# Altium integrated library Altera Classic EPLD.IntLib: 71 symbols (part 2 of 2)
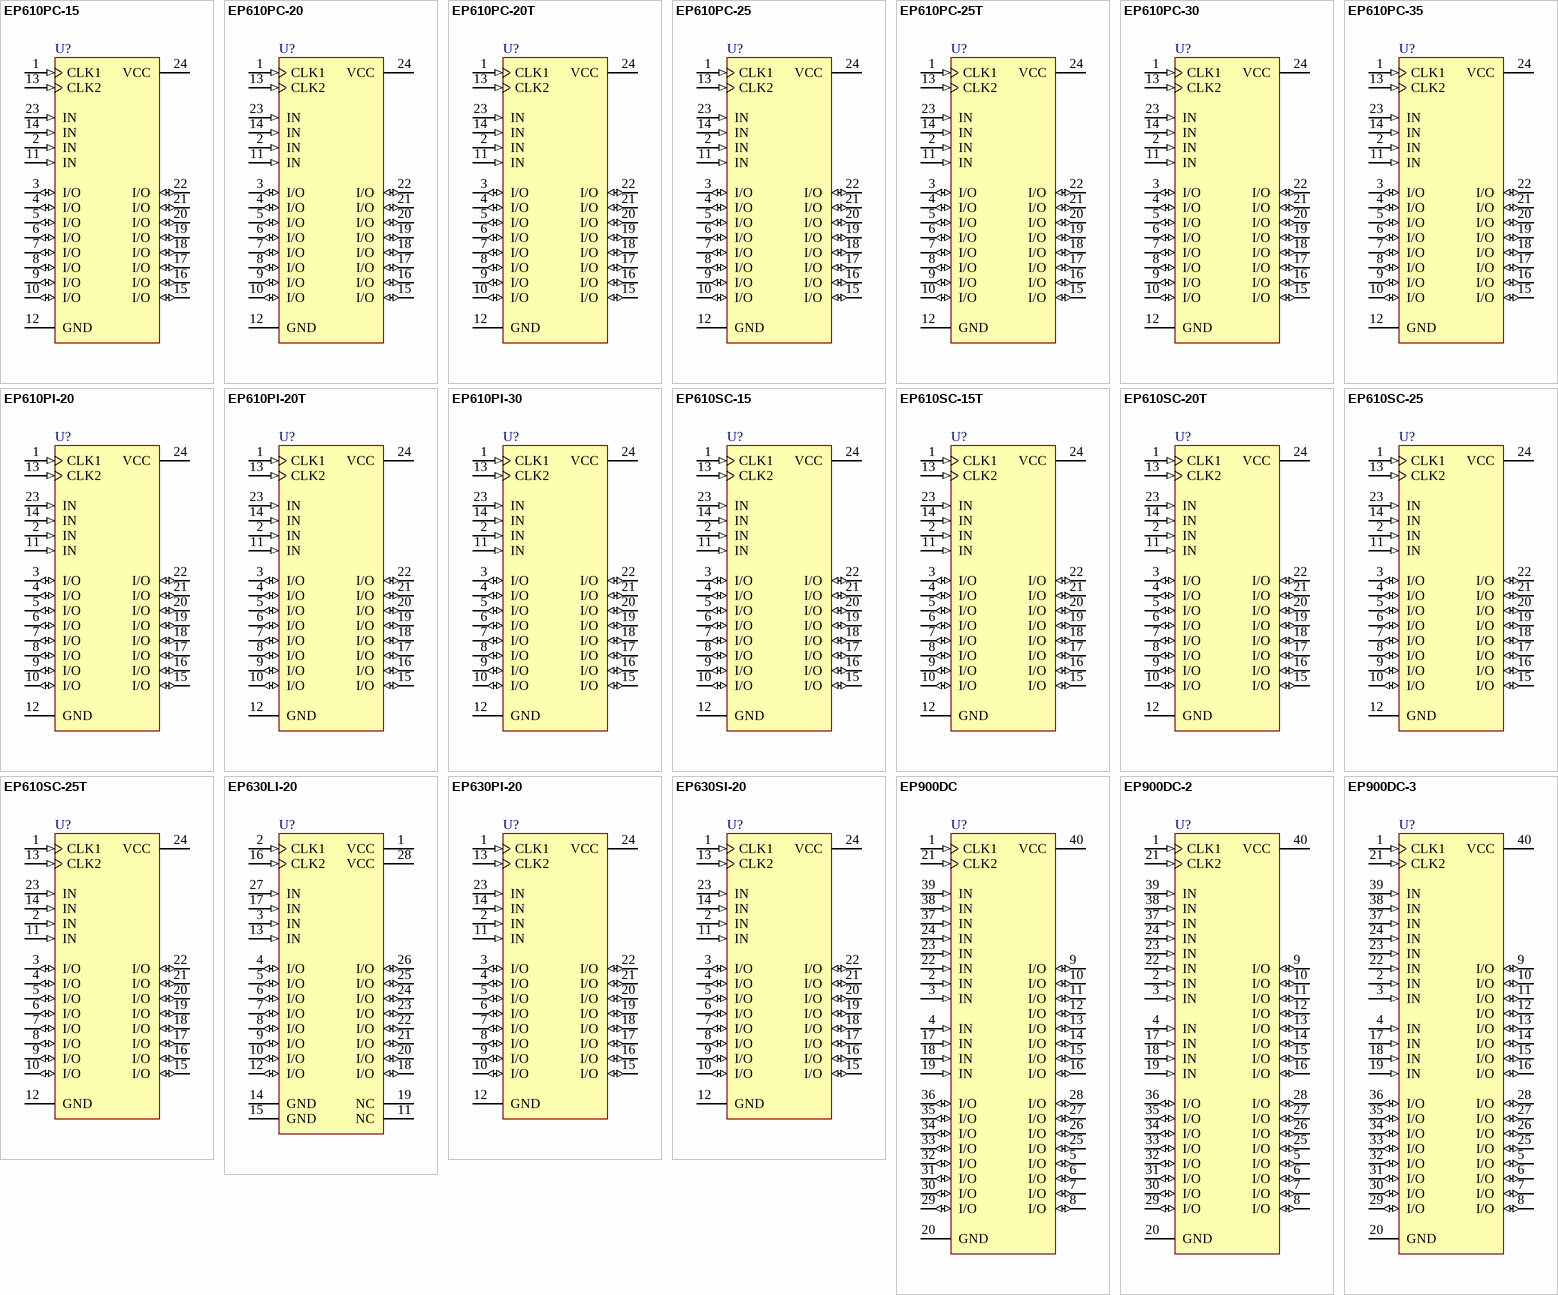
[diagram p4: symbols EP610PC-15 to EP900DC-3]

## EP610SC-25T
designator U?
EP610 5.0V Classic EPLD, 16-Macrocells, 24-Pin SOIC, Speed Grade 25, Commercial Grade, Turbo; Published: 24-Nov-2000; LatestRevisionDate: 13-Apr-2006; LatestRevisionNote: IPC-7351 Footprint Added.; DatasheetVersion: Mar-1995; PackageVersion: ver14.2, Oct-2005; PackageReference: SOIC24; Publisher: Altium Limited; PackageDescription: 24-Pin Small Outline Integrated Circuit Package (SOIC24); Code_JEDEC: MS-013-AD; ComponentLink1Description: Manufacturer Link; ComponentLink1URL: http://www.altera.com/products/devices/classic/cls-index.html; ComponentLink2Description: Datasheet; ComponentLink2URL: http://www.altera.com/literature/ds/classic.pdf
footprint SOIC24_N (SOIC, 24-Leads, Body 15.4x7.5mm, Pitch 1.27mm, IPC Medium Density)
footprint SOIC24_L (SOIC, 24-Leads, Body 15.4x7.5mm, Pitch 1.27mm, IPC High Density)
footprint SOIC24_M (SOIC, 24-Leads, Body 15.4x7.5mm, Pitch 1.27mm, IPC Low Density)
3D model SOIC24 (24-Pin Small Outline Integrated Circuit Package (SOIC24))
pins: 1 CLK1 (in), 2 IN (in), 3 I/O (io), 4 I/O (io), 5 I/O (io), 6 I/O (io), 7 I/O (io), 8 I/O (io), 9 I/O (io), 10 I/O (io), 11 IN (in), 12 GND (power), 13 CLK2 (in), 14 IN (in), 15 I/O (io), 16 I/O (io), 17 I/O (io), 18 I/O (io), 19 I/O (io), 20 I/O (io), 21 I/O (io), 22 I/O (io), 23 IN (in), 24 VCC (power)

## EP630LI-20
designator U?
EP630 5.0V Classic EPLD, 16-Macrocells, 28-Pin PLCC, Speed Grade 20, Industrial Grade; Published: 24-Nov-2000; LatestRevisionDate: 13-Apr-2006; LatestRevisionNote: IPC-7351 Footprint Added.; DatasheetVersion: Sep-1991; PackageVersion: ver14.2, Oct-2005; PackageReference: PLCC28; Publisher: Altium Limited; PackageDescription: 28-Pin Plastic J-Lead Chip Carrier (PLCC28); Code_JEDEC: MS-018-AB; ComponentLink1Description: Manufacturer Link; ComponentLink1URL: http://www.altera.com/products/devices/classic/cls-index.html
footprint PLCC28_N (Leaded Chip Carrier, 28-Leads, Body 11.5x11.5mm, Pitch 1.27mm, IPC Medium Density)
footprint PLCC28_L (Leaded Chip Carrier, 28-Leads, Body 11.5x11.5mm, Pitch 1.27mm, IPC High Density)
footprint PLCC28_M (Leaded Chip Carrier, 28-Leads, Body 11.5x11.5mm, Pitch 1.27mm, IPC Low Density)
3D model EP630-PLCC28 (28-Pin Plastic J-Lead Chip Carrier (PLCC28))
pins: 1 VCC (power), 2 CLK1 (in), 3 IN (in), 4 I/O (io), 5 I/O (io), 6 I/O (io), 7 I/O (io), 8 I/O (io), 9 I/O (io), 10 I/O (io), 11 NC, 12 I/O (io), 13 IN (in), 14 GND (power), 15 GND (power), 16 CLK2 (in), 17 IN (in), 18 I/O (io), 19 NC, 20 I/O (io), 21 I/O (io), 22 I/O (io), 23 I/O (io), 24 I/O (io), 25 I/O (io), 26 I/O (io), 27 IN (in), 28 VCC (power)

## EP630PI-20
designator U?
EP630 5.0V Classic EPLD, 16-Macrocells, 24-Pin PDIP, Speed Grade 20, Industrial Grade; Published: 24-Nov-2000; LatestRevisionDate: 04-Mar-2005; LatestRevisionNote: Stylized 3D Model Added.; DatasheetVersion: Sep-1991; PackageVersion: ver14.2, Oct-2005; PackageReference: PDIP24; Publisher: Altium Limited; PackageDescription: 24-Pin Plastic Dual In-Line Package (PDIP); Code_JEDEC: MS-001-AF; ComponentLink1Description: Manufacturer Link; ComponentLink1URL: http://www.altera.com/products/devices/classic/cls-index.html
footprint PDIP24 (DIP, 24-Leads, Row Spacing 7.62mm, Pitch 2.54mm, Body 30.21x6.54mm)
3D model PDIP24 (24-Pin Plastic Dual In-Line Package (PDIP))
pins: 1 CLK1 (in), 2 IN (in), 3 I/O (io), 4 I/O (io), 5 I/O (io), 6 I/O (io), 7 I/O (io), 8 I/O (io), 9 I/O (io), 10 I/O (io), 11 IN (in), 12 GND (power), 13 CLK2 (in), 14 IN (in), 15 I/O (io), 16 I/O (io), 17 I/O (io), 18 I/O (io), 19 I/O (io), 20 I/O (io), 21 I/O (io), 22 I/O (io), 23 IN (in), 24 VCC (power)

## EP630SI-20
designator U?
EP630 5.0V Classic EPLD, 16-Macrocells, 24-Pin SOIC, Speed Grade 20, Industrial Grade; Published: 24-Nov-2000; LatestRevisionDate: 13-Apr-2006; LatestRevisionNote: IPC-7351 Footprint Added.; DatasheetVersion: Sep-1991; PackageVersion: ver14.2, Oct-2005; PackageReference: SOIC24; Publisher: Altium Limited; PackageDescription: 24-Pin Small Outline Integrated Circuit Package (SOIC24); Code_JEDEC: MS-013-AD; ComponentLink1Description: Manufacturer Link; ComponentLink1URL: http://www.altera.com/products/devices/classic/cls-index.html
footprint SOIC24_N (SOIC, 24-Leads, Body 15.4x7.5mm, Pitch 1.27mm, IPC Medium Density)
footprint SOIC24_L (SOIC, 24-Leads, Body 15.4x7.5mm, Pitch 1.27mm, IPC High Density)
footprint SOIC24_M (SOIC, 24-Leads, Body 15.4x7.5mm, Pitch 1.27mm, IPC Low Density)
3D model SOIC24 (24-Pin Small Outline Integrated Circuit Package (SOIC24))
pins: 1 CLK1 (in), 2 IN (in), 3 I/O (io), 4 I/O (io), 5 I/O (io), 6 I/O (io), 7 I/O (io), 8 I/O (io), 9 I/O (io), 10 I/O (io), 11 IN (in), 12 GND (power), 13 CLK2 (in), 14 IN (in), 15 I/O (io), 16 I/O (io), 17 I/O (io), 18 I/O (io), 19 I/O (io), 20 I/O (io), 21 I/O (io), 22 I/O (io), 23 IN (in), 24 VCC (power)

## EP900DC
designator U?
EP900 5.0V Classic EPLD, 24-Macrocells, 40-Pin CerDIP, Speed Grade Standard, Commercial Grade; Note: Pins, function and programming file compatible with EP910 and EP910T devices; Published: 24-Nov-2000; LatestRevisionDate: 04-Mar-2005; LatestRevisionNote: Stylized 3D Model Added.; DatasheetVersion: Sep-1988; PackageVersion: ver14.2, Oct-2005; PackageReference: CerDIP40; Publisher: Altium Limited; PackageDescription: 40-Pin Ceramic Dual In-Line Package (CerDIP); Code_JEDEC: MS-032-AD; ComponentLink1Description: Manufacturer Link; ComponentLink1URL: http://www.altera.com/products/devices/classic/cls-index.html
footprint CerDIP40 (DIP, 40-Leads, Row Spacing 15.24mm, Pitch 2.54mm, Body 52.07x13.97mm)
3D model PDIP40 (40-Pin Ceramic Dual In-Line Package (CerDIP))
pins: 1 CLK1 (in), 2 IN (in), 3 IN (in), 4 IN (in), 5 I/O (io), 6 I/O (io), 7 I/O (io), 8 I/O (io), 9 I/O (io), 10 I/O (io), 11 I/O (io), 12 I/O (io), 13 I/O (io), 14 I/O (io), 15 I/O (io), 16 I/O (io), 17 IN (in), 18 IN (in), 19 IN (in), 20 GND (power), 21 CLK2 (in), 22 IN (in), 23 IN (in), 24 IN (in), 25 I/O (io), 26 I/O (io), 27 I/O (io), 28 I/O (io), 29 I/O (io), 30 I/O (io), 31 I/O (io), 32 I/O (io), 33 I/O (io), 34 I/O (io), 35 I/O (io), 36 I/O (io), 37 IN (in), 38 IN (in), 39 IN (in), 40 VCC (power)

## EP900DC-2
designator U?
EP900 5.0V Classic EPLD, 24-Macrocells, 40-Pin CerDIP, Speed Grade 2, Commercial Grade; Note: Pins, function and programming file compatible with EP910 and EP910T devices; Published: 24-Nov-2000; LatestRevisionDate: 04-Mar-2005; LatestRevisionNote: Stylized 3D Model Added.; DatasheetVersion: Sep-1988; PackageVersion: ver14.2, Oct-2005; PackageReference: CerDIP40; Publisher: Altium Limited; PackageDescription: 40-Pin Ceramic Dual In-Line Package (CerDIP); Code_JEDEC: MS-032-AD; ComponentLink1Description: Manufacturer Link; ComponentLink1URL: http://www.altera.com/products/devices/classic/cls-index.html
footprint CerDIP40 (DIP, 40-Leads, Row Spacing 15.24mm, Pitch 2.54mm, Body 52.07x13.97mm)
3D model PDIP40 (40-Pin Ceramic Dual In-Line Package (CerDIP))
pins: 1 CLK1 (in), 2 IN (in), 3 IN (in), 4 IN (in), 5 I/O (io), 6 I/O (io), 7 I/O (io), 8 I/O (io), 9 I/O (io), 10 I/O (io), 11 I/O (io), 12 I/O (io), 13 I/O (io), 14 I/O (io), 15 I/O (io), 16 I/O (io), 17 IN (in), 18 IN (in), 19 IN (in), 20 GND (power), 21 CLK2 (in), 22 IN (in), 23 IN (in), 24 IN (in), 25 I/O (io), 26 I/O (io), 27 I/O (io), 28 I/O (io), 29 I/O (io), 30 I/O (io), 31 I/O (io), 32 I/O (io), 33 I/O (io), 34 I/O (io), 35 I/O (io), 36 I/O (io), 37 IN (in), 38 IN (in), 39 IN (in), 40 VCC (power)

## EP900DC-3
designator U?
EP900 5.0V Classic EPLD, 24-Macrocells, 40-Pin CerDIP, Speed Grade 3, Commercial Grade; Note: Pins, function and programming file compatible with EP910 and EP910T devices; Published: 24-Nov-2000; LatestRevisionDate: 04-Mar-2005; LatestRevisionNote: Stylized 3D Model Added.; DatasheetVersion: Sep-1988; PackageVersion: ver14.2, Oct-2005; PackageReference: CerDIP40; Publisher: Altium Limited; PackageDescription: 40-Pin Ceramic Dual In-Line Package (CerDIP); Code_JEDEC: MS-032-AD; ComponentLink1Description: Manufacturer Link; ComponentLink1URL: http://www.altera.com/products/devices/classic/cls-index.html
footprint CerDIP40 (DIP, 40-Leads, Row Spacing 15.24mm, Pitch 2.54mm, Body 52.07x13.97mm)
3D model PDIP40 (40-Pin Ceramic Dual In-Line Package (CerDIP))
pins: 1 CLK1 (in), 2 IN (in), 3 IN (in), 4 IN (in), 5 I/O (io), 6 I/O (io), 7 I/O (io), 8 I/O (io), 9 I/O (io), 10 I/O (io), 11 I/O (io), 12 I/O (io), 13 I/O (io), 14 I/O (io), 15 I/O (io), 16 I/O (io), 17 IN (in), 18 IN (in), 19 IN (in), 20 GND (power), 21 CLK2 (in), 22 IN (in), 23 IN (in), 24 IN (in), 25 I/O (io), 26 I/O (io), 27 I/O (io), 28 I/O (io), 29 I/O (io), 30 I/O (io), 31 I/O (io), 32 I/O (io), 33 I/O (io), 34 I/O (io), 35 I/O (io), 36 I/O (io), 37 IN (in), 38 IN (in), 39 IN (in), 40 VCC (power)

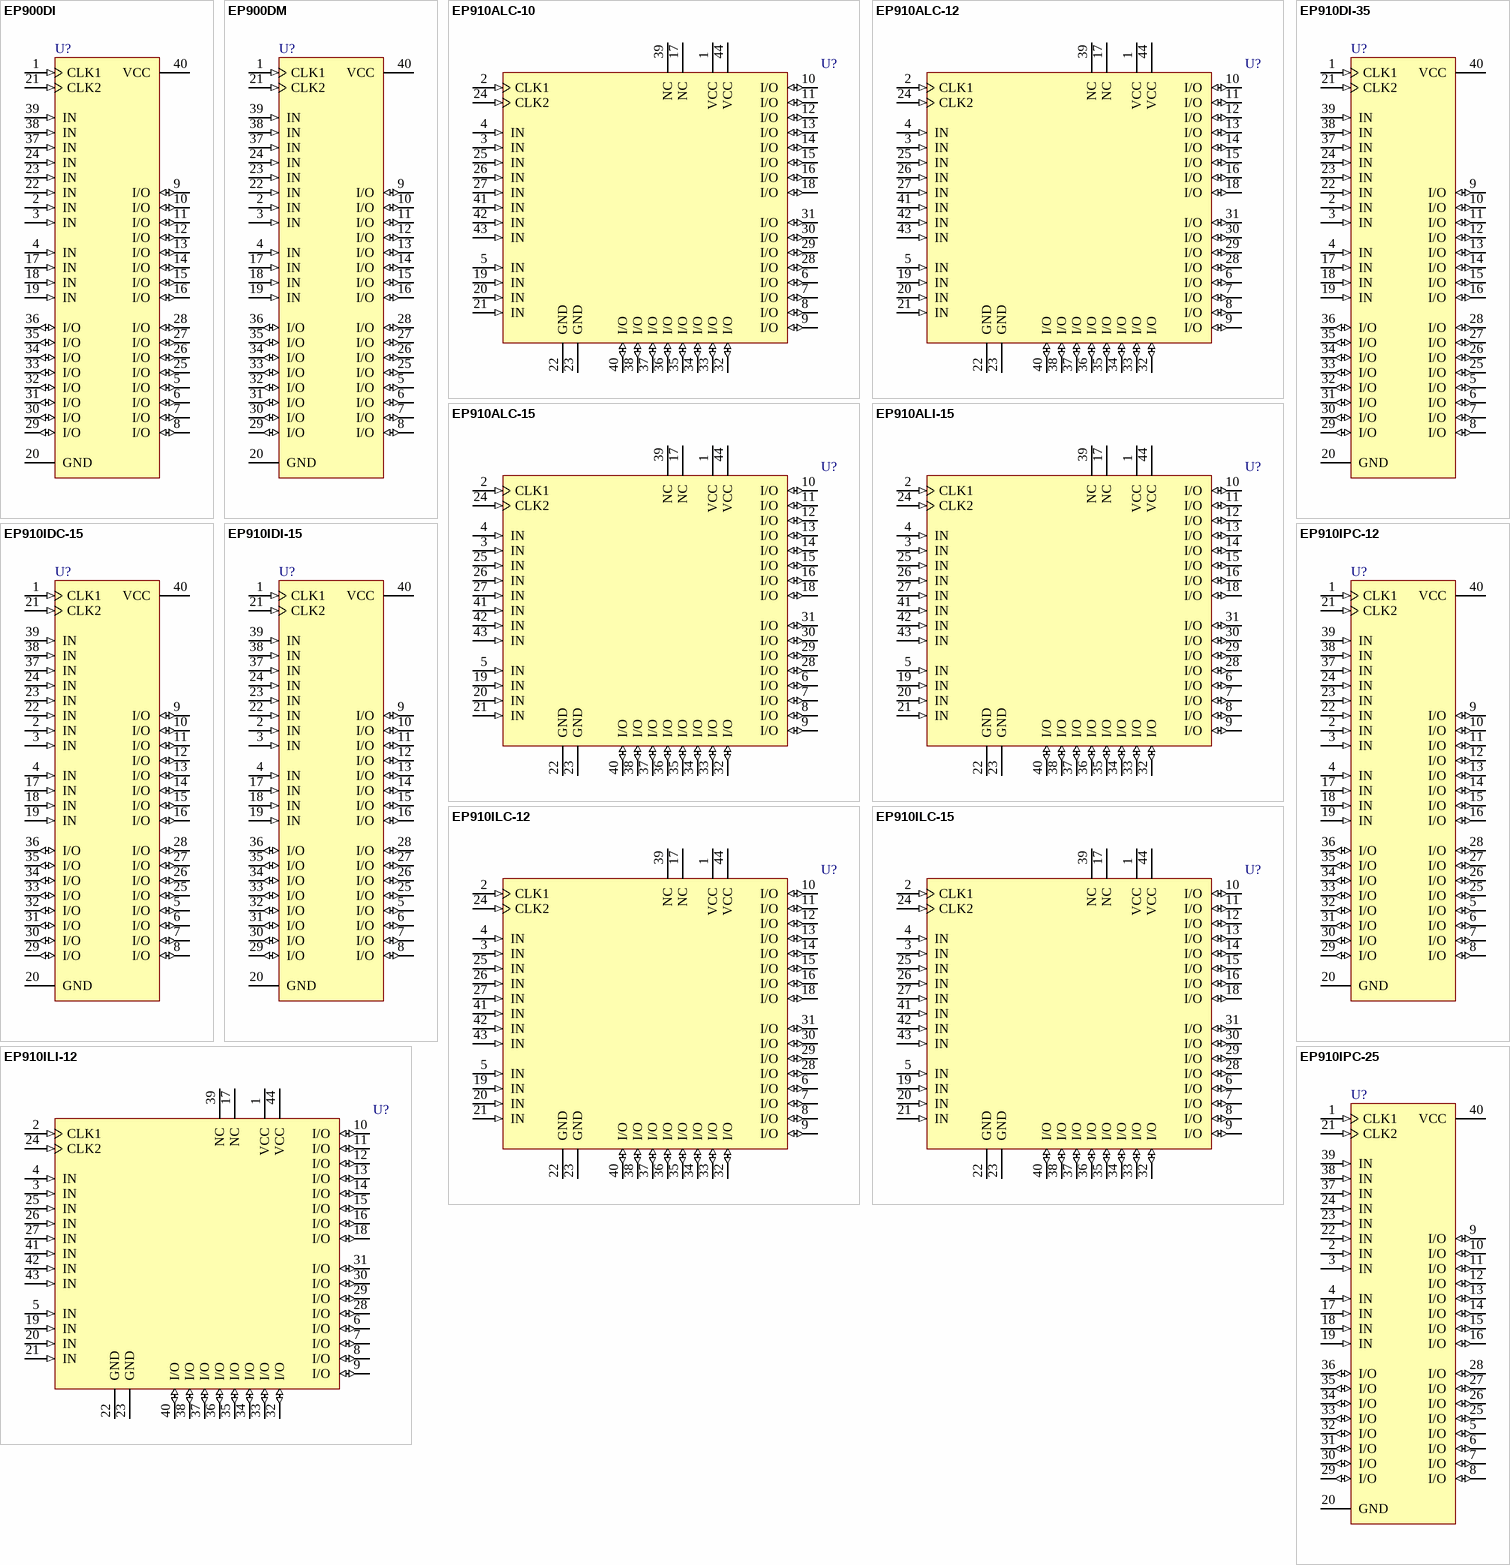
[diagram p2: symbols EP900DI to EP910IPC-25]

## EP900DI
designator U?
EP900 5.0V Classic EPLD, 24-Macrocells, 40-Pin CerDIP, Speed Grade Standard, Industrial Grade; Note: Pins, function and programming file compatible with EP910 and EP910T devices; Published: 24-Nov-2000; LatestRevisionDate: 04-Mar-2005; LatestRevisionNote: Stylized 3D Model Added.; DatasheetVersion: Sep-1988; PackageVersion: ver14.2, Oct-2005; PackageReference: CerDIP40; Publisher: Altium Limited; PackageDescription: 40-Pin Ceramic Dual In-Line Package (CerDIP); Code_JEDEC: MS-032-AD; ComponentLink1Description: Manufacturer Link; ComponentLink1URL: http://www.altera.com/products/devices/classic/cls-index.html
footprint CerDIP40 (DIP, 40-Leads, Row Spacing 15.24mm, Pitch 2.54mm, Body 52.07x13.97mm)
3D model PDIP40 (40-Pin Ceramic Dual In-Line Package (CerDIP))
pins: 1 CLK1 (in), 2 IN (in), 3 IN (in), 4 IN (in), 5 I/O (io), 6 I/O (io), 7 I/O (io), 8 I/O (io), 9 I/O (io), 10 I/O (io), 11 I/O (io), 12 I/O (io), 13 I/O (io), 14 I/O (io), 15 I/O (io), 16 I/O (io), 17 IN (in), 18 IN (in), 19 IN (in), 20 GND (power), 21 CLK2 (in), 22 IN (in), 23 IN (in), 24 IN (in), 25 I/O (io), 26 I/O (io), 27 I/O (io), 28 I/O (io), 29 I/O (io), 30 I/O (io), 31 I/O (io), 32 I/O (io), 33 I/O (io), 34 I/O (io), 35 I/O (io), 36 I/O (io), 37 IN (in), 38 IN (in), 39 IN (in), 40 VCC (power)

## EP900DM
designator U?
EP900 5.0V Classic EPLD, 24-Macrocells, 40-Pin CerDIP, Speed Grade Standard, Military Grade; Note: Pins, function and programming file compatible with EP910 and EP910T devices; Published: 24-Nov-2000; LatestRevisionDate: 04-Mar-2005; LatestRevisionNote: Stylized 3D Model Added.; DatasheetVersion: Sep-1988; PackageVersion: ver14.2, Oct-2005; PackageReference: CerDIP40; Publisher: Altium Limited; PackageDescription: 40-Pin Ceramic Dual In-Line Package (CerDIP); Code_JEDEC: MS-032-AD; ComponentLink1Description: Manufacturer Link; ComponentLink1URL: http://www.altera.com/products/devices/classic/cls-index.html
footprint CerDIP40 (DIP, 40-Leads, Row Spacing 15.24mm, Pitch 2.54mm, Body 52.07x13.97mm)
3D model PDIP40 (40-Pin Ceramic Dual In-Line Package (CerDIP))
pins: 1 CLK1 (in), 2 IN (in), 3 IN (in), 4 IN (in), 5 I/O (io), 6 I/O (io), 7 I/O (io), 8 I/O (io), 9 I/O (io), 10 I/O (io), 11 I/O (io), 12 I/O (io), 13 I/O (io), 14 I/O (io), 15 I/O (io), 16 I/O (io), 17 IN (in), 18 IN (in), 19 IN (in), 20 GND (power), 21 CLK2 (in), 22 IN (in), 23 IN (in), 24 IN (in), 25 I/O (io), 26 I/O (io), 27 I/O (io), 28 I/O (io), 29 I/O (io), 30 I/O (io), 31 I/O (io), 32 I/O (io), 33 I/O (io), 34 I/O (io), 35 I/O (io), 36 I/O (io), 37 IN (in), 38 IN (in), 39 IN (in), 40 VCC (power)

## EP910ALC-10
designator U?
EP910A 5.0V Classic EPLD, 24-Macrocells, 44-Pin PLCC, Speed Grade 10, Commercial Grade; Published: 24-Nov-2000; LatestRevisionDate: 13-Apr-2006; LatestRevisionNote: IPC-7351 Footprint Added.; DatasheetVersion: Mar-1993; PackageVersion: ver14.3, Jul-2006; PackageReference: PLCC44; Publisher: Altium Limited; PackageDescription: 44-Pin Plastic J-Lead Chip Carrier (PLCC44); Code_JEDEC: MS-018-AC; Code_IPC: PLCC-44; ComponentLink1Description: Manufacturer Link; ComponentLink1URL: http://www.altera.com/products/devices/classic/cls-index.html
footprint PLCC44_N (Leaded Chip Carrier, 44-Leads, Body 16.6x16.6mm, Pitch 1.27mm, IPC Medium Density)
footprint PLCC44_L (Leaded Chip Carrier, 44-Leads, Body 16.6x16.6mm, Pitch 1.27mm, IPC High Density)
footprint PLCC44_M (Leaded Chip Carrier, 44-Leads, Body 16.6x16.6mm, Pitch 1.27mm, IPC Low Density)
3D model EP910A-PLCC44 (44-Pin Plastic J-Lead Chip Carrier (PLCC44))
pins: 1 VCC (power), 2 CLK1 (in), 3 IN (in), 4 IN (in), 5 IN (in), 6 I/O (io), 7 I/O (io), 8 I/O (io), 9 I/O (io), 10 I/O (io), 11 I/O (io), 12 I/O (io), 13 I/O (io), 14 I/O (io), 15 I/O (io), 16 I/O (io), 17 NC, 18 I/O (io), 19 IN (in), 20 IN (in), 21 IN (in), 22 GND (power), 23 GND (power), 24 CLK2 (in), 25 IN (in), 26 IN (in), 27 IN (in), 28 I/O (io), 29 I/O (io), 30 I/O (io), 31 I/O (io), 32 I/O (io), 33 I/O (io), 34 I/O (io), 35 I/O (io), 36 I/O (io), 37 I/O (io), 38 I/O (io), 39 NC, 40 I/O (io), 41 IN (in), 42 IN (in), 43 IN (in), 44 VCC (power)

## EP910ALC-12
designator U?
EP910A 5.0V Classic EPLD, 24-Macrocells, 44-Pin PLCC, Speed Grade 12, Commercial Grade; Published: 24-Nov-2000; LatestRevisionDate: 13-Apr-2006; LatestRevisionNote: IPC-7351 Footprint Added.; DatasheetVersion: Mar-1993; PackageVersion: ver14.3, Jul-2006; PackageReference: PLCC44; Publisher: Altium Limited; PackageDescription: 44-Pin Plastic J-Lead Chip Carrier (PLCC44); Code_JEDEC: MS-018-AC; Code_IPC: PLCC-44; ComponentLink1Description: Manufacturer Link; ComponentLink1URL: http://www.altera.com/products/devices/classic/cls-index.html
footprint PLCC44_N (Leaded Chip Carrier, 44-Leads, Body 16.6x16.6mm, Pitch 1.27mm, IPC Medium Density)
footprint PLCC44_L (Leaded Chip Carrier, 44-Leads, Body 16.6x16.6mm, Pitch 1.27mm, IPC High Density)
footprint PLCC44_M (Leaded Chip Carrier, 44-Leads, Body 16.6x16.6mm, Pitch 1.27mm, IPC Low Density)
3D model EP910A-PLCC44 (44-Pin Plastic J-Lead Chip Carrier (PLCC44))
pins: 1 VCC (power), 2 CLK1 (in), 3 IN (in), 4 IN (in), 5 IN (in), 6 I/O (io), 7 I/O (io), 8 I/O (io), 9 I/O (io), 10 I/O (io), 11 I/O (io), 12 I/O (io), 13 I/O (io), 14 I/O (io), 15 I/O (io), 16 I/O (io), 17 NC, 18 I/O (io), 19 IN (in), 20 IN (in), 21 IN (in), 22 GND (power), 23 GND (power), 24 CLK2 (in), 25 IN (in), 26 IN (in), 27 IN (in), 28 I/O (io), 29 I/O (io), 30 I/O (io), 31 I/O (io), 32 I/O (io), 33 I/O (io), 34 I/O (io), 35 I/O (io), 36 I/O (io), 37 I/O (io), 38 I/O (io), 39 NC, 40 I/O (io), 41 IN (in), 42 IN (in), 43 IN (in), 44 VCC (power)

## EP910ALC-15
designator U?
EP910A 5.0V Classic EPLD, 24-Macrocells, 44-Pin PLCC, Speed Grade 15, Commercial Grade; Published: 24-Nov-2000; LatestRevisionDate: 13-Apr-2006; LatestRevisionNote: IPC-7351 Footprint Added.; DatasheetVersion: Mar-1993; PackageVersion: ver14.3, Jul-2006; PackageReference: PLCC44; Publisher: Altium Limited; PackageDescription: 44-Pin Plastic J-Lead Chip Carrier (PLCC44); Code_JEDEC: MS-018-AC; Code_IPC: PLCC-44; ComponentLink1Description: Manufacturer Link; ComponentLink1URL: http://www.altera.com/products/devices/classic/cls-index.html
footprint PLCC44_N (Leaded Chip Carrier, 44-Leads, Body 16.6x16.6mm, Pitch 1.27mm, IPC Medium Density)
footprint PLCC44_L (Leaded Chip Carrier, 44-Leads, Body 16.6x16.6mm, Pitch 1.27mm, IPC High Density)
footprint PLCC44_M (Leaded Chip Carrier, 44-Leads, Body 16.6x16.6mm, Pitch 1.27mm, IPC Low Density)
3D model EP910A-PLCC44 (44-Pin Plastic J-Lead Chip Carrier (PLCC44))
pins: 1 VCC (power), 2 CLK1 (in), 3 IN (in), 4 IN (in), 5 IN (in), 6 I/O (io), 7 I/O (io), 8 I/O (io), 9 I/O (io), 10 I/O (io), 11 I/O (io), 12 I/O (io), 13 I/O (io), 14 I/O (io), 15 I/O (io), 16 I/O (io), 17 NC, 18 I/O (io), 19 IN (in), 20 IN (in), 21 IN (in), 22 GND (power), 23 GND (power), 24 CLK2 (in), 25 IN (in), 26 IN (in), 27 IN (in), 28 I/O (io), 29 I/O (io), 30 I/O (io), 31 I/O (io), 32 I/O (io), 33 I/O (io), 34 I/O (io), 35 I/O (io), 36 I/O (io), 37 I/O (io), 38 I/O (io), 39 NC, 40 I/O (io), 41 IN (in), 42 IN (in), 43 IN (in), 44 VCC (power)

## EP910ALI-15
designator U?
EP910A 5.0V Classic EPLD, 24-Macrocells, 44-Pin PLCC, Speed Grade 15, Industrial Grade; Published: 24-Nov-2000; LatestRevisionDate: 13-Apr-2006; LatestRevisionNote: IPC-7351 Footprint Added.; DatasheetVersion: Mar-1993; PackageVersion: ver14.3, Jul-2006; PackageReference: PLCC44; Publisher: Altium Limited; PackageDescription: 44-Pin Plastic J-Lead Chip Carrier (PLCC44); Code_JEDEC: MS-018-AC; Code_IPC: PLCC-44; ComponentLink1Description: Manufacturer Link; ComponentLink1URL: http://www.altera.com/products/devices/classic/cls-index.html
footprint PLCC44_N (Leaded Chip Carrier, 44-Leads, Body 16.6x16.6mm, Pitch 1.27mm, IPC Medium Density)
footprint PLCC44_L (Leaded Chip Carrier, 44-Leads, Body 16.6x16.6mm, Pitch 1.27mm, IPC High Density)
footprint PLCC44_M (Leaded Chip Carrier, 44-Leads, Body 16.6x16.6mm, Pitch 1.27mm, IPC Low Density)
3D model EP910A-PLCC44 (44-Pin Plastic J-Lead Chip Carrier (PLCC44))
pins: 1 VCC (power), 2 CLK1 (in), 3 IN (in), 4 IN (in), 5 IN (in), 6 I/O (io), 7 I/O (io), 8 I/O (io), 9 I/O (io), 10 I/O (io), 11 I/O (io), 12 I/O (io), 13 I/O (io), 14 I/O (io), 15 I/O (io), 16 I/O (io), 17 NC, 18 I/O (io), 19 IN (in), 20 IN (in), 21 IN (in), 22 GND (power), 23 GND (power), 24 CLK2 (in), 25 IN (in), 26 IN (in), 27 IN (in), 28 I/O (io), 29 I/O (io), 30 I/O (io), 31 I/O (io), 32 I/O (io), 33 I/O (io), 34 I/O (io), 35 I/O (io), 36 I/O (io), 37 I/O (io), 38 I/O (io), 39 NC, 40 I/O (io), 41 IN (in), 42 IN (in), 43 IN (in), 44 VCC (power)

## EP910DI-35
designator U?
EP910 5.0V Classic EPLD, 24-Macrocells, 40-Pin CerDIP, Speed Grade 35, Industrial Grade; Note: Pins, function and programming file compatible with EP910 and EP910T devices; Published: 24-Nov-2000; LatestRevisionDate: 04-Mar-2005; LatestRevisionNote: Stylized 3D Model Added.; DatasheetVersion: May-1999; PackageVersion: ver14.2, Oct-2005; PackageReference: CerDIP40; Publisher: Altium Limited; PackageDescription: 40-Pin Ceramic Dual In-Line Package (CerDIP); Code_JEDEC: MS-032-AD; ComponentLink1Description: Manufacturer Link; ComponentLink1URL: http://www.altera.com/products/devices/classic/cls-index.html
footprint CerDIP40 (DIP, 40-Leads, Row Spacing 15.24mm, Pitch 2.54mm, Body 52.07x13.97mm)
3D model PDIP40 (40-Pin Ceramic Dual In-Line Package (CerDIP))
pins: 1 CLK1 (in), 2 IN (in), 3 IN (in), 4 IN (in), 5 I/O (io), 6 I/O (io), 7 I/O (io), 8 I/O (io), 9 I/O (io), 10 I/O (io), 11 I/O (io), 12 I/O (io), 13 I/O (io), 14 I/O (io), 15 I/O (io), 16 I/O (io), 17 IN (in), 18 IN (in), 19 IN (in), 20 GND (power), 21 CLK2 (in), 22 IN (in), 23 IN (in), 24 IN (in), 25 I/O (io), 26 I/O (io), 27 I/O (io), 28 I/O (io), 29 I/O (io), 30 I/O (io), 31 I/O (io), 32 I/O (io), 33 I/O (io), 34 I/O (io), 35 I/O (io), 36 I/O (io), 37 IN (in), 38 IN (in), 39 IN (in), 40 VCC (power)

## EP910IDC-15
designator U?
EP910I 5.0V Classic EPLD, 24-Macrocells, 40-Pin CerDIP, Speed Grade 15, Commercial Grade; Note: Pins, function and programming file compatible with EP910 and EP910T devices; Published: 24-Nov-2000; LatestRevisionDate: 04-Mar-2005; LatestRevisionNote: Stylized 3D Model Added.; DatasheetVersion: May-1999; PackageVersion: ver14.2, Oct-2005; PackageReference: CerDIP40; Publisher: Altium Limited; PackageDescription: 40-Pin Ceramic Dual In-Line Package (CerDIP); Code_JEDEC: MS-032-AD; ComponentLink1Description: Manufacturer Link; ComponentLink1URL: http://www.altera.com/products/devices/classic/cls-index.html
footprint CerDIP40 (DIP, 40-Leads, Row Spacing 15.24mm, Pitch 2.54mm, Body 52.07x13.97mm)
3D model PDIP40 (40-Pin Ceramic Dual In-Line Package (CerDIP))
pins: 1 CLK1 (in), 2 IN (in), 3 IN (in), 4 IN (in), 5 I/O (io), 6 I/O (io), 7 I/O (io), 8 I/O (io), 9 I/O (io), 10 I/O (io), 11 I/O (io), 12 I/O (io), 13 I/O (io), 14 I/O (io), 15 I/O (io), 16 I/O (io), 17 IN (in), 18 IN (in), 19 IN (in), 20 GND (power), 21 CLK2 (in), 22 IN (in), 23 IN (in), 24 IN (in), 25 I/O (io), 26 I/O (io), 27 I/O (io), 28 I/O (io), 29 I/O (io), 30 I/O (io), 31 I/O (io), 32 I/O (io), 33 I/O (io), 34 I/O (io), 35 I/O (io), 36 I/O (io), 37 IN (in), 38 IN (in), 39 IN (in), 40 VCC (power)

## EP910IDI-15
designator U?
EP910I 5.0V Classic EPLD, 24-Macrocells, 40-Pin CerDIP, Speed Grade 15, Industrial Grade; Note: Pins, function and programming file compatible with EP910 and EP910T devices; Published: 24-Nov-2000; LatestRevisionDate: 04-Mar-2005; LatestRevisionNote: Stylized 3D Model Added.; DatasheetVersion: May-1999; PackageVersion: ver14.2, Oct-2005; PackageReference: CerDIP40; Publisher: Altium Limited; PackageDescription: 40-Pin Ceramic Dual In-Line Package (CerDIP); Code_JEDEC: MS-032-AD; ComponentLink1Description: Manufacturer Link; ComponentLink1URL: http://www.altera.com/products/devices/classic/cls-index.html
footprint CerDIP40 (DIP, 40-Leads, Row Spacing 15.24mm, Pitch 2.54mm, Body 52.07x13.97mm)
3D model PDIP40 (40-Pin Ceramic Dual In-Line Package (CerDIP))
pins: 1 CLK1 (in), 2 IN (in), 3 IN (in), 4 IN (in), 5 I/O (io), 6 I/O (io), 7 I/O (io), 8 I/O (io), 9 I/O (io), 10 I/O (io), 11 I/O (io), 12 I/O (io), 13 I/O (io), 14 I/O (io), 15 I/O (io), 16 I/O (io), 17 IN (in), 18 IN (in), 19 IN (in), 20 GND (power), 21 CLK2 (in), 22 IN (in), 23 IN (in), 24 IN (in), 25 I/O (io), 26 I/O (io), 27 I/O (io), 28 I/O (io), 29 I/O (io), 30 I/O (io), 31 I/O (io), 32 I/O (io), 33 I/O (io), 34 I/O (io), 35 I/O (io), 36 I/O (io), 37 IN (in), 38 IN (in), 39 IN (in), 40 VCC (power)

## EP910ILC-12
designator U?
EP910I 5.0V Classic EPLD, 24-Macrocells, 44-Pin PLCC, Speed Grade 12, Commercial Grade; Published: 24-Nov-2000; LatestRevisionDate: 13-Apr-2006; LatestRevisionNote: IPC-7351 Footprint Added.; DatasheetVersion: May-1999; PackageVersion: ver14.3, Jul-2006; PackageReference: PLCC44; Publisher: Altium Limited; PackageDescription: 44-Pin Plastic J-Lead Chip Carrier (PLCC44); Code_JEDEC: MS-018-AC; Code_IPC: PLCC-44; ComponentLink1Description: Manufacturer Link; ComponentLink1URL: http://www.altera.com/products/devices/classic/cls-index.html; ComponentLink2Description: Datasheet; ComponentLink2URL: http://www.altera.com/literature/ds/classic.pdf
footprint PLCC44_N (Leaded Chip Carrier, 44-Leads, Body 16.6x16.6mm, Pitch 1.27mm, IPC Medium Density)
footprint PLCC44_L (Leaded Chip Carrier, 44-Leads, Body 16.6x16.6mm, Pitch 1.27mm, IPC High Density)
footprint PLCC44_M (Leaded Chip Carrier, 44-Leads, Body 16.6x16.6mm, Pitch 1.27mm, IPC Low Density)
3D model EP910I-PLCC44 (44-Pin Plastic J-Lead Chip Carrier (PLCC44))
pins: 1 VCC (power), 2 CLK1 (in), 3 IN (in), 4 IN (in), 5 IN (in), 6 I/O (io), 7 I/O (io), 8 I/O (io), 9 I/O (io), 10 I/O (io), 11 I/O (io), 12 I/O (io), 13 I/O (io), 14 I/O (io), 15 I/O (io), 16 I/O (io), 17 NC, 18 I/O (io), 19 IN (in), 20 IN (in), 21 IN (in), 22 GND (power), 23 GND (power), 24 CLK2 (in), 25 IN (in), 26 IN (in), 27 IN (in), 28 I/O (io), 29 I/O (io), 30 I/O (io), 31 I/O (io), 32 I/O (io), 33 I/O (io), 34 I/O (io), 35 I/O (io), 36 I/O (io), 37 I/O (io), 38 I/O (io), 39 NC, 40 I/O (io), 41 IN (in), 42 IN (in), 43 IN (in), 44 VCC (power)

## EP910ILC-15
designator U?
EP910I 5.0V Classic EPLD, 24-Macrocells, 44-Pin PLCC, Speed Grade 15, Commercial Grade; Published: 24-Nov-2000; LatestRevisionDate: 13-Apr-2006; LatestRevisionNote: IPC-7351 Footprint Added.; DatasheetVersion: May-1999; PackageVersion: ver14.3, Jul-2006; PackageReference: PLCC44; Publisher: Altium Limited; PackageDescription: 44-Pin Plastic J-Lead Chip Carrier (PLCC44); Code_JEDEC: MS-018-AC; Code_IPC: PLCC-44; ComponentLink1Description: Manufacturer Link; ComponentLink1URL: http://www.altera.com/products/devices/classic/cls-index.html; ComponentLink2Description: Datasheet; ComponentLink2URL: http://www.altera.com/literature/ds/classic.pdf
footprint PLCC44_N (Leaded Chip Carrier, 44-Leads, Body 16.6x16.6mm, Pitch 1.27mm, IPC Medium Density)
footprint PLCC44_L (Leaded Chip Carrier, 44-Leads, Body 16.6x16.6mm, Pitch 1.27mm, IPC High Density)
footprint PLCC44_M (Leaded Chip Carrier, 44-Leads, Body 16.6x16.6mm, Pitch 1.27mm, IPC Low Density)
3D model EP910I-PLCC44 (44-Pin Plastic J-Lead Chip Carrier (PLCC44))
pins: 1 VCC (power), 2 CLK1 (in), 3 IN (in), 4 IN (in), 5 IN (in), 6 I/O (io), 7 I/O (io), 8 I/O (io), 9 I/O (io), 10 I/O (io), 11 I/O (io), 12 I/O (io), 13 I/O (io), 14 I/O (io), 15 I/O (io), 16 I/O (io), 17 NC, 18 I/O (io), 19 IN (in), 20 IN (in), 21 IN (in), 22 GND (power), 23 GND (power), 24 CLK2 (in), 25 IN (in), 26 IN (in), 27 IN (in), 28 I/O (io), 29 I/O (io), 30 I/O (io), 31 I/O (io), 32 I/O (io), 33 I/O (io), 34 I/O (io), 35 I/O (io), 36 I/O (io), 37 I/O (io), 38 I/O (io), 39 NC, 40 I/O (io), 41 IN (in), 42 IN (in), 43 IN (in), 44 VCC (power)

## EP910ILI-12
designator U?
EP910I 5.0V Classic EPLD, 24-Macrocells, 44-Pin PLCC, Speed Grade 12, Industrial Grade; Published: 24-Nov-2000; LatestRevisionDate: 13-Apr-2006; LatestRevisionNote: IPC-7351 Footprint Added.; DatasheetVersion: May-1999; PackageVersion: ver14.3, Jul-2006; PackageReference: PLCC44; Publisher: Altium Limited; PackageDescription: 44-Pin Plastic J-Lead Chip Carrier (PLCC44); Code_JEDEC: MS-018-AC; Code_IPC: PLCC-44; ComponentLink1Description: Manufacturer Link; ComponentLink1URL: http://www.altera.com/products/devices/classic/cls-index.html; ComponentLink2Description: Datasheet; ComponentLink2URL: http://www.altera.com/literature/ds/classic.pdf
footprint PLCC44_N (Leaded Chip Carrier, 44-Leads, Body 16.6x16.6mm, Pitch 1.27mm, IPC Medium Density)
footprint PLCC44_L (Leaded Chip Carrier, 44-Leads, Body 16.6x16.6mm, Pitch 1.27mm, IPC High Density)
footprint PLCC44_M (Leaded Chip Carrier, 44-Leads, Body 16.6x16.6mm, Pitch 1.27mm, IPC Low Density)
3D model EP910I-PLCC44 (44-Pin Plastic J-Lead Chip Carrier (PLCC44))
pins: 1 VCC (power), 2 CLK1 (in), 3 IN (in), 4 IN (in), 5 IN (in), 6 I/O (io), 7 I/O (io), 8 I/O (io), 9 I/O (io), 10 I/O (io), 11 I/O (io), 12 I/O (io), 13 I/O (io), 14 I/O (io), 15 I/O (io), 16 I/O (io), 17 NC, 18 I/O (io), 19 IN (in), 20 IN (in), 21 IN (in), 22 GND (power), 23 GND (power), 24 CLK2 (in), 25 IN (in), 26 IN (in), 27 IN (in), 28 I/O (io), 29 I/O (io), 30 I/O (io), 31 I/O (io), 32 I/O (io), 33 I/O (io), 34 I/O (io), 35 I/O (io), 36 I/O (io), 37 I/O (io), 38 I/O (io), 39 NC, 40 I/O (io), 41 IN (in), 42 IN (in), 43 IN (in), 44 VCC (power)

## EP910IPC-12
designator U?
EP910I 5.0V Classic EPLD, 24-Macrocells, 40-Pin PDIP, Speed Grade 12, Commercial Grade; Published: 17-Jul-2002; LatestRevisionDate: 04-Mar-2005; LatestRevisionNote: Stylized 3D Model Added.; DatasheetVersion: May-1999; PackageVersion: ver14.2, Oct-2005; PackageReference: PDIP40; Publisher: Altium Limited; PackageDescription: 40-Pin Plastic Dual In-Line Package (PDIP); Code_JEDEC: MS-011-AC; ComponentLink1Description: Manufacturer Link; ComponentLink1URL: http://www.altera.com/products/devices/classic/cls-index.html
footprint PDIP40 (DIP, 40-Leads, Row Spacing 15.24mm, Pitch 2.54mm, Body 52.07x13.72mm)
3D model PDIP40 (40-Pin Plastic Dual In-Line Package (PDIP))
pins: 1 CLK1 (in), 2 IN (in), 3 IN (in), 4 IN (in), 5 I/O (io), 6 I/O (io), 7 I/O (io), 8 I/O (io), 9 I/O (io), 10 I/O (io), 11 I/O (io), 12 I/O (io), 13 I/O (io), 14 I/O (io), 15 I/O (io), 16 I/O (io), 17 IN (in), 18 IN (in), 19 IN (in), 20 GND (power), 21 CLK2 (in), 22 IN (in), 23 IN (in), 24 IN (in), 25 I/O (io), 26 I/O (io), 27 I/O (io), 28 I/O (io), 29 I/O (io), 30 I/O (io), 31 I/O (io), 32 I/O (io), 33 I/O (io), 34 I/O (io), 35 I/O (io), 36 I/O (io), 37 IN (in), 38 IN (in), 39 IN (in), 40 VCC (power)

## EP910IPC-25
designator U?
EP910I 5.0V Classic EPLD, 24-Macrocells, 40-Pin PDIP, Speed Grade 25, Commercial Grade; Note: Pins, function and programming file compatible with EP910 and EP910T devices; Published: 24-Nov-2000; LatestRevisionDate: 04-Mar-2005; LatestRevisionNote: Stylized 3D Model Added.; DatasheetVersion: May-1999; PackageVersion: ver14.2, Oct-2005; PackageReference: PDIP40; Publisher: Altium Limited; PackageDescription: 40-Pin Plastic Dual In-Line Package (PDIP); Code_JEDEC: MS-011-AC; ComponentLink1Description: Manufacturer Link; ComponentLink1URL: http://www.altera.com/products/devices/classic/cls-index.html
footprint PDIP40 (DIP, 40-Leads, Row Spacing 15.24mm, Pitch 2.54mm, Body 52.07x13.72mm)
3D model PDIP40 (40-Pin Plastic Dual In-Line Package (PDIP))
pins: 1 CLK1 (in), 2 IN (in), 3 IN (in), 4 IN (in), 5 I/O (io), 6 I/O (io), 7 I/O (io), 8 I/O (io), 9 I/O (io), 10 I/O (io), 11 I/O (io), 12 I/O (io), 13 I/O (io), 14 I/O (io), 15 I/O (io), 16 I/O (io), 17 IN (in), 18 IN (in), 19 IN (in), 20 GND (power), 21 CLK2 (in), 22 IN (in), 23 IN (in), 24 IN (in), 25 I/O (io), 26 I/O (io), 27 I/O (io), 28 I/O (io), 29 I/O (io), 30 I/O (io), 31 I/O (io), 32 I/O (io), 33 I/O (io), 34 I/O (io), 35 I/O (io), 36 I/O (io), 37 IN (in), 38 IN (in), 39 IN (in), 40 VCC (power)

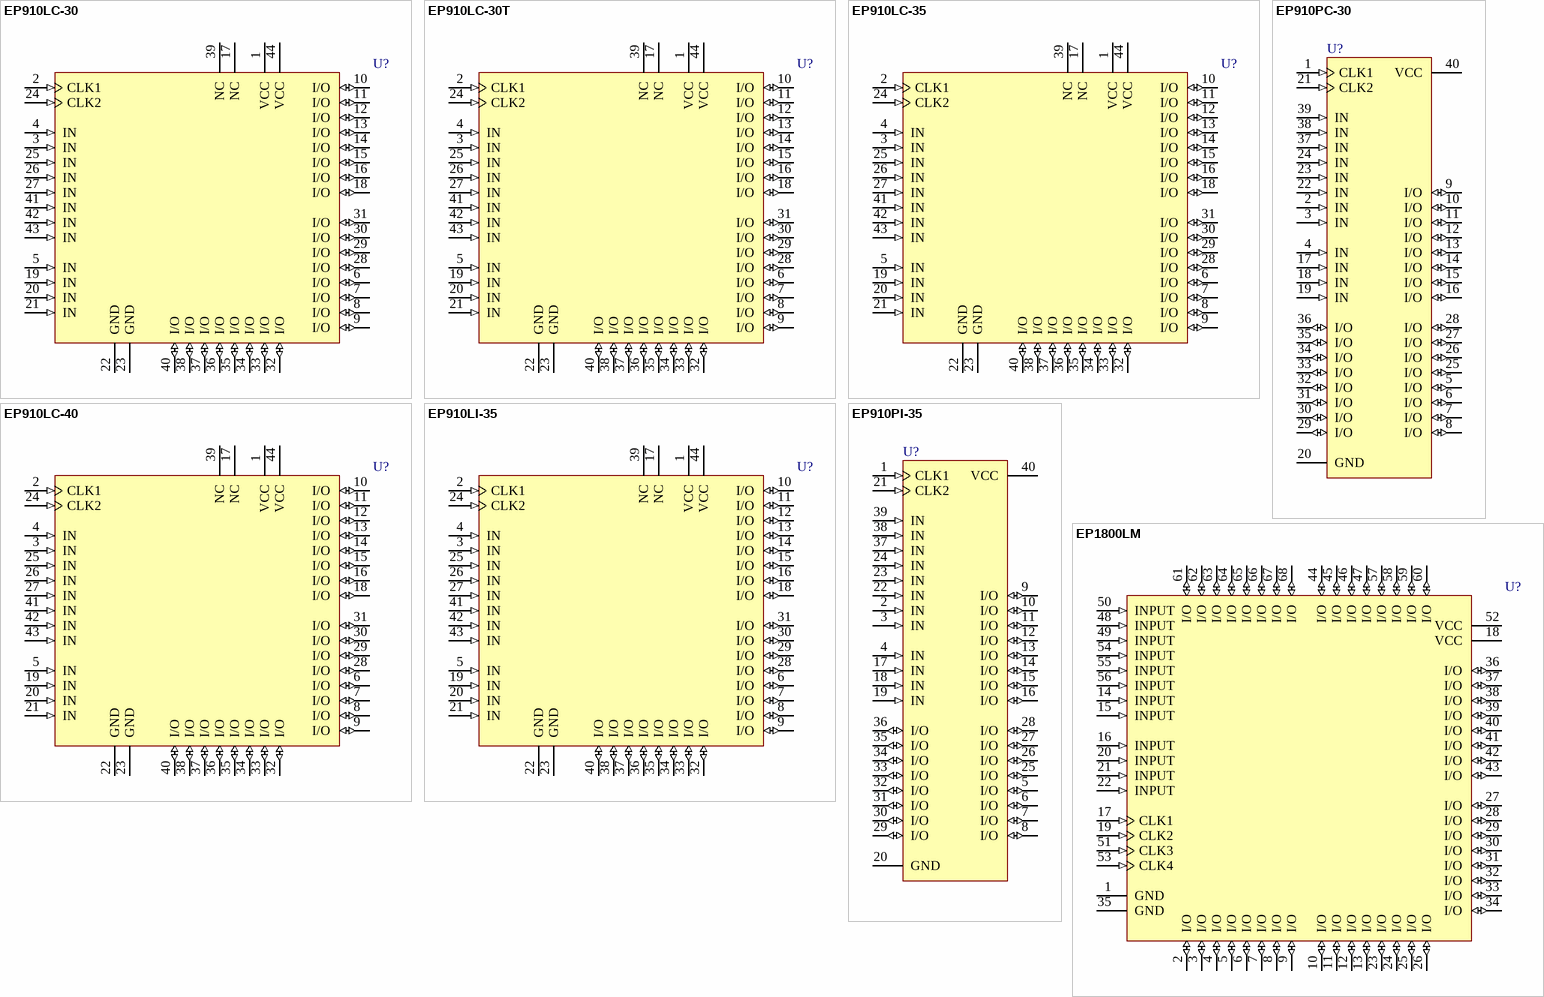
[diagram p3: symbols EP910LC-30 to EP1800LM]

## EP910LC-30
designator U?
EP910 5.0V Classic EPLD, 24-Macrocells, 44-Pin PLCC, Speed Grade 30, Commercial Grade; Published: 24-Nov-2000; LatestRevisionDate: 13-Apr-2006; LatestRevisionNote: IPC-7351 Footprint Added.; DatasheetVersion: May-1999; PackageVersion: ver14.3, Jul-2006; PackageReference: PLCC44; Publisher: Altium Limited; PackageDescription: 44-Pin Plastic J-Lead Chip Carrier (PLCC44); Code_JEDEC: MS-018-AC; Code_IPC: PLCC-44; ComponentLink1Description: Manufacturer Link; ComponentLink1URL: http://www.altera.com/products/devices/classic/cls-index.html; ComponentLink2Description: Datasheet; ComponentLink2URL: http://www.altera.com/literature/ds/classic.pdf
footprint PLCC44_N (Leaded Chip Carrier, 44-Leads, Body 16.6x16.6mm, Pitch 1.27mm, IPC Medium Density)
footprint PLCC44_L (Leaded Chip Carrier, 44-Leads, Body 16.6x16.6mm, Pitch 1.27mm, IPC High Density)
footprint PLCC44_M (Leaded Chip Carrier, 44-Leads, Body 16.6x16.6mm, Pitch 1.27mm, IPC Low Density)
3D model EP910-PLCC44 (44-Pin Plastic J-Lead Chip Carrier (PLCC44))
pins: 1 VCC (power), 2 CLK1 (in), 3 IN (in), 4 IN (in), 5 IN (in), 6 I/O (io), 7 I/O (io), 8 I/O (io), 9 I/O (io), 10 I/O (io), 11 I/O (io), 12 I/O (io), 13 I/O (io), 14 I/O (io), 15 I/O (io), 16 I/O (io), 17 NC, 18 I/O (io), 19 IN (in), 20 IN (in), 21 IN (in), 22 GND (power), 23 GND (power), 24 CLK2 (in), 25 IN (in), 26 IN (in), 27 IN (in), 28 I/O (io), 29 I/O (io), 30 I/O (io), 31 I/O (io), 32 I/O (io), 33 I/O (io), 34 I/O (io), 35 I/O (io), 36 I/O (io), 37 I/O (io), 38 I/O (io), 39 NC, 40 I/O (io), 41 IN (in), 42 IN (in), 43 IN (in), 44 VCC (power)

## EP910LC-30T
designator U?
EP910 5.0V Classic EPLD, 24-Macrocells, 44-Pin PLCC, Speed Grade 30, Commercial Grade, Turbo; Published: 24-Nov-2000; LatestRevisionDate: 13-Apr-2006; LatestRevisionNote: IPC-7351 Footprint Added.; DatasheetVersion: May-1999; PackageVersion: ver14.3, Jul-2006; PackageReference: PLCC44; Publisher: Altium Limited; PackageDescription: 44-Pin Plastic J-Lead Chip Carrier (PLCC44); Code_JEDEC: MS-018-AC; Code_IPC: PLCC-44; ComponentLink1Description: Manufacturer Link; ComponentLink1URL: http://www.altera.com/products/devices/classic/cls-index.html; ComponentLink2Description: Datasheet; ComponentLink2URL: http://www.altera.com/literature/ds/classic.pdf
footprint PLCC44_N (Leaded Chip Carrier, 44-Leads, Body 16.6x16.6mm, Pitch 1.27mm, IPC Medium Density)
footprint PLCC44_L (Leaded Chip Carrier, 44-Leads, Body 16.6x16.6mm, Pitch 1.27mm, IPC High Density)
footprint PLCC44_M (Leaded Chip Carrier, 44-Leads, Body 16.6x16.6mm, Pitch 1.27mm, IPC Low Density)
3D model EP910-PLCC44 (44-Pin Plastic J-Lead Chip Carrier (PLCC44))
pins: 1 VCC (power), 2 CLK1 (in), 3 IN (in), 4 IN (in), 5 IN (in), 6 I/O (io), 7 I/O (io), 8 I/O (io), 9 I/O (io), 10 I/O (io), 11 I/O (io), 12 I/O (io), 13 I/O (io), 14 I/O (io), 15 I/O (io), 16 I/O (io), 17 NC, 18 I/O (io), 19 IN (in), 20 IN (in), 21 IN (in), 22 GND (power), 23 GND (power), 24 CLK2 (in), 25 IN (in), 26 IN (in), 27 IN (in), 28 I/O (io), 29 I/O (io), 30 I/O (io), 31 I/O (io), 32 I/O (io), 33 I/O (io), 34 I/O (io), 35 I/O (io), 36 I/O (io), 37 I/O (io), 38 I/O (io), 39 NC, 40 I/O (io), 41 IN (in), 42 IN (in), 43 IN (in), 44 VCC (power)

## EP910LC-35
designator U?
EP910 5.0V Classic EPLD, 24-Macrocells, 44-Pin PLCC, Speed Grade 35, Commercial Grade; Published: 24-Nov-2000; LatestRevisionDate: 13-Apr-2006; LatestRevisionNote: IPC-7351 Footprint Added.; DatasheetVersion: May-1999; PackageVersion: ver14.3, Jul-2006; PackageReference: PLCC44; Publisher: Altium Limited; PackageDescription: 44-Pin Plastic J-Lead Chip Carrier (PLCC44); Code_JEDEC: MS-018-AC; Code_IPC: PLCC-44; ComponentLink1Description: Manufacturer Link; ComponentLink1URL: http://www.altera.com/products/devices/classic/cls-index.html; ComponentLink2Description: Datasheet; ComponentLink2URL: http://www.altera.com/literature/ds/classic.pdf
footprint PLCC44_N (Leaded Chip Carrier, 44-Leads, Body 16.6x16.6mm, Pitch 1.27mm, IPC Medium Density)
footprint PLCC44_L (Leaded Chip Carrier, 44-Leads, Body 16.6x16.6mm, Pitch 1.27mm, IPC High Density)
footprint PLCC44_M (Leaded Chip Carrier, 44-Leads, Body 16.6x16.6mm, Pitch 1.27mm, IPC Low Density)
3D model EP910-PLCC44 (44-Pin Plastic J-Lead Chip Carrier (PLCC44))
pins: 1 VCC (power), 2 CLK1 (in), 3 IN (in), 4 IN (in), 5 IN (in), 6 I/O (io), 7 I/O (io), 8 I/O (io), 9 I/O (io), 10 I/O (io), 11 I/O (io), 12 I/O (io), 13 I/O (io), 14 I/O (io), 15 I/O (io), 16 I/O (io), 17 NC, 18 I/O (io), 19 IN (in), 20 IN (in), 21 IN (in), 22 GND (power), 23 GND (power), 24 CLK2 (in), 25 IN (in), 26 IN (in), 27 IN (in), 28 I/O (io), 29 I/O (io), 30 I/O (io), 31 I/O (io), 32 I/O (io), 33 I/O (io), 34 I/O (io), 35 I/O (io), 36 I/O (io), 37 I/O (io), 38 I/O (io), 39 NC, 40 I/O (io), 41 IN (in), 42 IN (in), 43 IN (in), 44 VCC (power)

## EP910LC-40
designator U?
EP910 5.0V Classic EPLD, 24-Macrocells, 44-Pin PLCC, Speed Grade 40, Commercial Grade; Published: 24-Nov-2000; LatestRevisionDate: 13-Apr-2006; LatestRevisionNote: IPC-7351 Footprint Added.; DatasheetVersion: May-1999; PackageVersion: ver14.3, Jul-2006; PackageReference: PLCC44; Publisher: Altium Limited; PackageDescription: 44-Pin Plastic J-Lead Chip Carrier (PLCC44); Code_JEDEC: MS-018-AC; Code_IPC: PLCC-44; ComponentLink1Description: Manufacturer Link; ComponentLink1URL: http://www.altera.com/products/devices/classic/cls-index.html; ComponentLink2Description: Datasheet; ComponentLink2URL: http://www.altera.com/literature/ds/classic.pdf
footprint PLCC44_N (Leaded Chip Carrier, 44-Leads, Body 16.6x16.6mm, Pitch 1.27mm, IPC Medium Density)
footprint PLCC44_L (Leaded Chip Carrier, 44-Leads, Body 16.6x16.6mm, Pitch 1.27mm, IPC High Density)
footprint PLCC44_M (Leaded Chip Carrier, 44-Leads, Body 16.6x16.6mm, Pitch 1.27mm, IPC Low Density)
3D model EP910-PLCC44 (44-Pin Plastic J-Lead Chip Carrier (PLCC44))
pins: 1 VCC (power), 2 CLK1 (in), 3 IN (in), 4 IN (in), 5 IN (in), 6 I/O (io), 7 I/O (io), 8 I/O (io), 9 I/O (io), 10 I/O (io), 11 I/O (io), 12 I/O (io), 13 I/O (io), 14 I/O (io), 15 I/O (io), 16 I/O (io), 17 NC, 18 I/O (io), 19 IN (in), 20 IN (in), 21 IN (in), 22 GND (power), 23 GND (power), 24 CLK2 (in), 25 IN (in), 26 IN (in), 27 IN (in), 28 I/O (io), 29 I/O (io), 30 I/O (io), 31 I/O (io), 32 I/O (io), 33 I/O (io), 34 I/O (io), 35 I/O (io), 36 I/O (io), 37 I/O (io), 38 I/O (io), 39 NC, 40 I/O (io), 41 IN (in), 42 IN (in), 43 IN (in), 44 VCC (power)

## EP910LI-35
designator U?
EP910 5.0V Classic EPLD, 24-Macrocells, 44-Pin PLCC, Speed Grade 35, Industrial Grade; Published: 24-Nov-2000; LatestRevisionDate: 13-Apr-2006; LatestRevisionNote: IPC-7351 Footprint Added.; DatasheetVersion: May-1999; PackageVersion: ver14.3, Jul-2006; PackageReference: PLCC44; Publisher: Altium Limited; PackageDescription: 44-Pin Plastic J-Lead Chip Carrier (PLCC44); Code_JEDEC: MS-018-AC; Code_IPC: PLCC-44; ComponentLink1Description: Manufacturer Link; ComponentLink1URL: http://www.altera.com/products/devices/classic/cls-index.html; ComponentLink2Description: Datasheet; ComponentLink2URL: http://www.altera.com/literature/ds/classic.pdf
footprint PLCC44_N (Leaded Chip Carrier, 44-Leads, Body 16.6x16.6mm, Pitch 1.27mm, IPC Medium Density)
footprint PLCC44_L (Leaded Chip Carrier, 44-Leads, Body 16.6x16.6mm, Pitch 1.27mm, IPC High Density)
footprint PLCC44_M (Leaded Chip Carrier, 44-Leads, Body 16.6x16.6mm, Pitch 1.27mm, IPC Low Density)
3D model EP910-PLCC44 (44-Pin Plastic J-Lead Chip Carrier (PLCC44))
pins: 1 VCC (power), 2 CLK1 (in), 3 IN (in), 4 IN (in), 5 IN (in), 6 I/O (io), 7 I/O (io), 8 I/O (io), 9 I/O (io), 10 I/O (io), 11 I/O (io), 12 I/O (io), 13 I/O (io), 14 I/O (io), 15 I/O (io), 16 I/O (io), 17 NC, 18 I/O (io), 19 IN (in), 20 IN (in), 21 IN (in), 22 GND (power), 23 GND (power), 24 CLK2 (in), 25 IN (in), 26 IN (in), 27 IN (in), 28 I/O (io), 29 I/O (io), 30 I/O (io), 31 I/O (io), 32 I/O (io), 33 I/O (io), 34 I/O (io), 35 I/O (io), 36 I/O (io), 37 I/O (io), 38 I/O (io), 39 NC, 40 I/O (io), 41 IN (in), 42 IN (in), 43 IN (in), 44 VCC (power)

## EP910PC-30
designator U?
EP910 5.0V Classic EPLD, 24-Macrocells, 40-Pin PDIP, Speed Grade 30, Commercial Grade; Note: Pins, function and programming file compatible with EP910 and EP910T devices; Published: 24-Nov-2000; LatestRevisionDate: 04-Mar-2005; LatestRevisionNote: Stylized 3D Model Added.; DatasheetVersion: May-1999; PackageVersion: ver14.2, Oct-2005; PackageReference: PDIP40; Publisher: Altium Limited; PackageDescription: 40-Pin Plastic Dual In-Line Package (PDIP); Code_JEDEC: MS-011-AC; ComponentLink1Description: Manufacturer Link; ComponentLink1URL: http://www.altera.com/products/devices/classic/cls-index.html
footprint PDIP40 (DIP, 40-Leads, Row Spacing 15.24mm, Pitch 2.54mm, Body 52.07x13.72mm)
3D model PDIP40 (40-Pin Plastic Dual In-Line Package (PDIP))
pins: 1 CLK1 (in), 2 IN (in), 3 IN (in), 4 IN (in), 5 I/O (io), 6 I/O (io), 7 I/O (io), 8 I/O (io), 9 I/O (io), 10 I/O (io), 11 I/O (io), 12 I/O (io), 13 I/O (io), 14 I/O (io), 15 I/O (io), 16 I/O (io), 17 IN (in), 18 IN (in), 19 IN (in), 20 GND (power), 21 CLK2 (in), 22 IN (in), 23 IN (in), 24 IN (in), 25 I/O (io), 26 I/O (io), 27 I/O (io), 28 I/O (io), 29 I/O (io), 30 I/O (io), 31 I/O (io), 32 I/O (io), 33 I/O (io), 34 I/O (io), 35 I/O (io), 36 I/O (io), 37 IN (in), 38 IN (in), 39 IN (in), 40 VCC (power)

## EP910PI-35
designator U?
EP910 5.0V Classic EPLD, 24-Macrocells, 40-Pin PDIP, Speed Grade 35, Industrial Grade; Note: Pins, function and programming file compatible with EP910 and EP910T devices; Published: 24-Nov-2000; LatestRevisionDate: 04-Mar-2005; LatestRevisionNote: Stylized 3D Model Added.; DatasheetVersion: May-1999; PackageVersion: ver14.2, Oct-2005; PackageReference: PDIP40; Publisher: Altium Limited; PackageDescription: 40-Pin Plastic Dual In-Line Package (PDIP); Code_JEDEC: MS-011-AC; ComponentLink1Description: Manufacturer Link; ComponentLink1URL: http://www.altera.com/products/devices/classic/cls-index.html
footprint PDIP40 (DIP, 40-Leads, Row Spacing 15.24mm, Pitch 2.54mm, Body 52.07x13.72mm)
3D model PDIP40 (40-Pin Plastic Dual In-Line Package (PDIP))
pins: 1 CLK1 (in), 2 IN (in), 3 IN (in), 4 IN (in), 5 I/O (io), 6 I/O (io), 7 I/O (io), 8 I/O (io), 9 I/O (io), 10 I/O (io), 11 I/O (io), 12 I/O (io), 13 I/O (io), 14 I/O (io), 15 I/O (io), 16 I/O (io), 17 IN (in), 18 IN (in), 19 IN (in), 20 GND (power), 21 CLK2 (in), 22 IN (in), 23 IN (in), 24 IN (in), 25 I/O (io), 26 I/O (io), 27 I/O (io), 28 I/O (io), 29 I/O (io), 30 I/O (io), 31 I/O (io), 32 I/O (io), 33 I/O (io), 34 I/O (io), 35 I/O (io), 36 I/O (io), 37 IN (in), 38 IN (in), 39 IN (in), 40 VCC (power)

## EP1800LM
designator U?
EP1800 5.0V EPLD, 48-Macrocells, 68-Pin PLCC, Speed Grade Standard, Military Grade; Published: 24-Nov-2000; LatestRevisionDate: 13-Apr-2006; LatestRevisionNote: IPC-7351 Footprint Added.; DatasheetVersion: Sep-1988; PackageVersion: ver14.2, Oct-2005; PackageReference: PLCC68; Publisher: Altium Limited; PackageDescription: 68-Pin Plastic J-Lead Chip Carrier (PLCC68); Code_JEDEC: MS-018-AE; Code_IPC: PLCC-68; ComponentLink1Description: Manufacturer Link; ComponentLink1URL: http://www.altera.com/products/devices/classic/cls-index.html
footprint PLCC68_N (Leaded Chip Carrier, 68-Leads, Body 24x24mm, Pitch 1.27mm, IPC Medium Density)
footprint PLCC68_L (Leaded Chip Carrier, 68-Leads, Body 24x24mm, Pitch 1.27mm, IPC High Density)
footprint PLCC68_M (Leaded Chip Carrier, 68-Leads, Body 24x24mm, Pitch 1.27mm, IPC Low Density)
3D model EP1800-PLCC68 (68-Pin Plastic J-Lead Chip Carrier (PLCC68))
pins: 1 GND (power), 2 I/O (io), 3 I/O (io), 4 I/O (io), 5 I/O (io), 6 I/O (io), 7 I/O (io), 8 I/O (io), 9 I/O (io), 10 I/O (io), 11 I/O (io), 12 I/O (io), 13 I/O (io), 14 INPUT (in), 15 INPUT (in), 16 INPUT (in), 17 CLK1 (in), 18 VCC (power), 19 CLK2 (in), 20 INPUT (in), 21 INPUT (in), 22 INPUT (in), 23 I/O (io), 24 I/O (io), 25 I/O (io), 26 I/O (io), 27 I/O (io), 28 I/O (io), 29 I/O (io), 30 I/O (io), 31 I/O (io), 32 I/O (io), 33 I/O (io), 34 I/O (io), 35 GND (power), 36 I/O (io), 37 I/O (io), 38 I/O (io), 39 I/O (io), 40 I/O (io), 41 I/O (io), 42 I/O (io), 43 I/O (io), 44 I/O (io), 45 I/O (io), 46 I/O (io), 47 I/O (io), 48 INPUT (in), 49 INPUT (in), 50 INPUT (in), 51 CLK3 (in), 52 VCC (power), 53 CLK4 (in), 54 INPUT (in), 55 INPUT (in), 56 INPUT (in), 57 I/O (io), 58 I/O (io), 59 I/O (io), 60 I/O (io), 61 I/O (io), 62 I/O (io), 63 I/O (io), 64 I/O (io), 65 I/O (io), 66 I/O (io), 67 I/O (io), 68 I/O (io)